# Altium integrated library ABM8G-12.000MHZ-4Y-T3.IntLib: 1 symbol
Pins are listed as number, name and electrical type; pins without a type are passive.

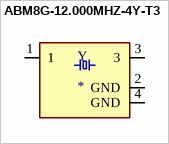
[diagram p0: symbol ABM8G-12.000MHZ-4Y-T3]

## ABM8G-12.000MHZ-4Y-T3
designator Y
12MHz Â±30ppm Crystal 10pF 120 Ohms 4-SMD, No Lead; MF: Abracon; MP: ABM8G-12.000MHZ-4Y-T3; SnapEDA_Link: https://www.snapeda.com/parts/ABM8G-12.000MHZ-4Y-T3/Abracon%20LLC/view-part/327032/?ref=snap; Value: *; Availability: Unavailable; Price: None; Package: SMD-4 Abracon
footprint OSCSC320X250X100N
pins: 1, 2 GND (power), 3, 4 GND (power)